# Altium schematic symbol library 02013A100JAT2A.SchLib: 1 symbol
Pins are listed as number, name and electrical type; pins without a type are passive.

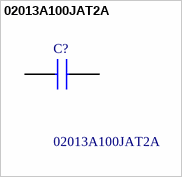
[diagram p0: symbol 02013A100JAT2A]

## 02013A100JAT2A
designator C?
Multilayer Ceramic Capacitors MLCC - SMD/SMT 10PF 25volts COG C0G; Manufacturer_Name: Kyocera AVX; Geometry.Height: 0.33mm; Mouser Part Number: 581-02013A100J; Mouser Price/Stock: https://www.mouser.co.uk/ProductDetail/KYOCERA-AVX/02013A100JAT2A?qs=O%2FKt6V6lEtyQY4OYcPPzbA%3D%3D; Manufacturer_Part_Number: 02013A100JAT2A; Datasheet Link: *
footprint CAPC0603X33N
pins: 1, 2